# Altium footprint library ws2812b.PcbLib: 2 footprints
Each footprint in its own frame and in the unit in brackets; x right, y up, seen from the top. Pads: shape width x height; smd on the part's side, far side on the other; paste and mask are expansions set on the pad; w line width, h text height; cw(c..) or ccw(c..) is an arc to the next point about the centre after c.
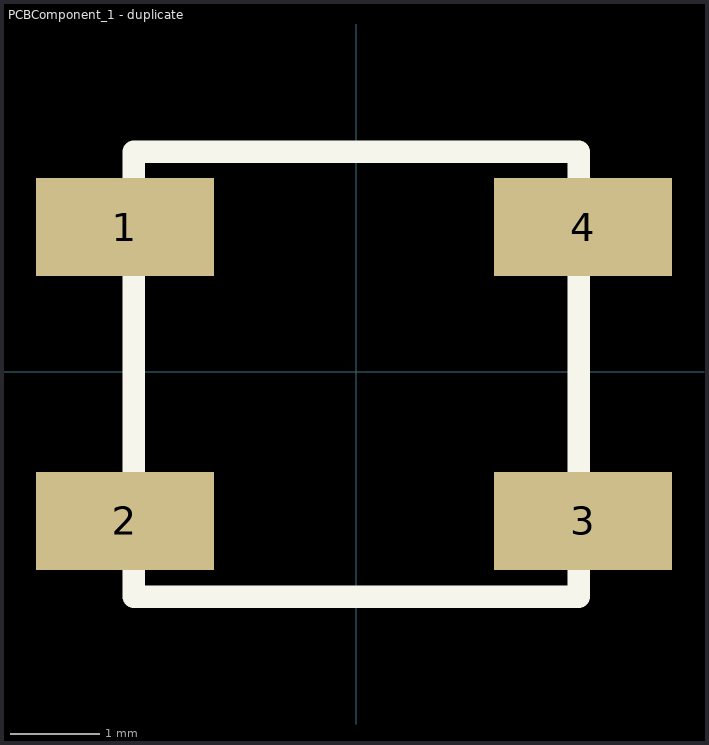
[diagram p0: the footprints below, top view; thin cyan lines are the x and y axes]

## PCBComponent_1 [mm]

## PCBComponent_1 - duplicate [mm]
pads (4):
  rect 2x1.1 smd: 1(-2.602,1.627) 2(-2.602,-1.673) 3(2.548,-1.673) 4(2.548,1.627)
Top Overlay:
  lines w0.254: -2.5,-2.525 2.5,-2.525 2.5,2.475 -2.5,2.475 -2.5,-2.525
3D body: height 1.51, standoff -0.06, extent -2.7,-2.464 2.7,2.536